# Altium schematic symbol library ald_mosfets.SchLib: 9 symbols
Pins are listed as number, name and electrical type; pins without a type are passive.

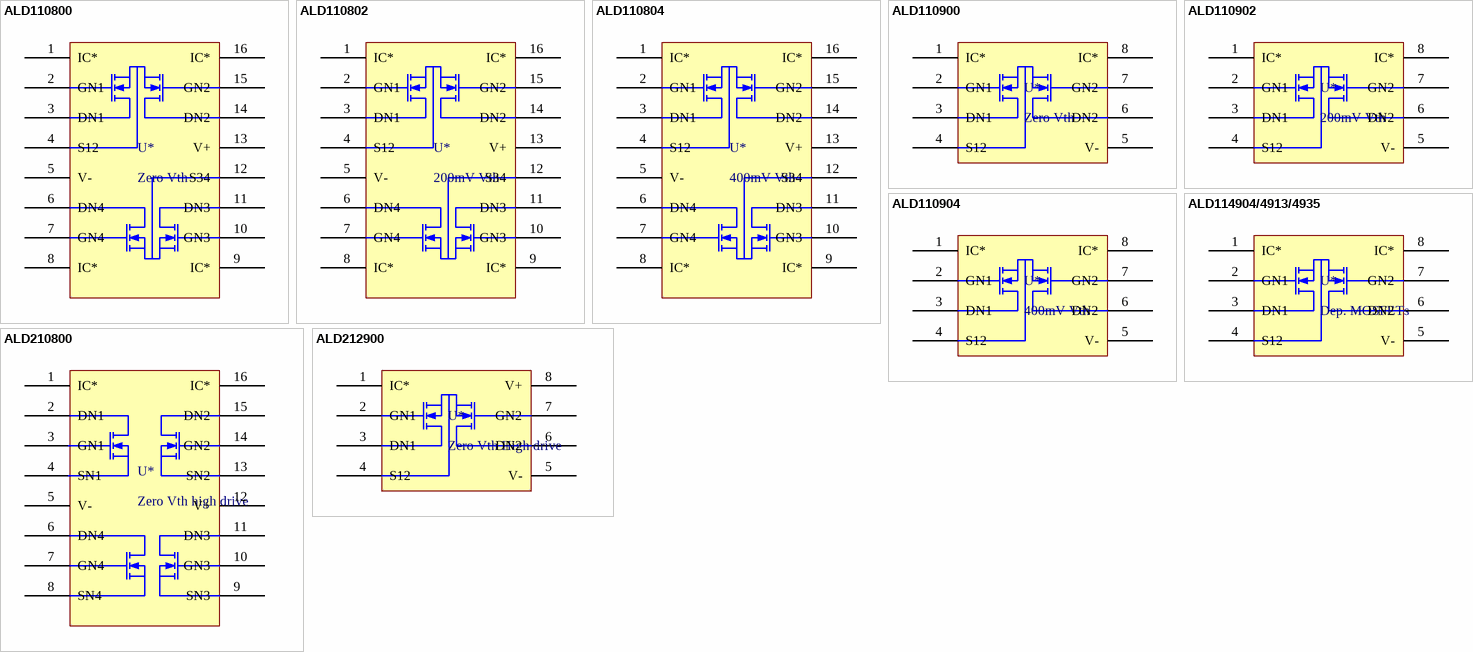
[diagram p0: symbols ALD110800 to ALD212900]

## ALD110800
designator U*, comment Zero Vth
Zero threshold Precision mosfets
footprint 16SOIC (ALD) (SOIC footprint for ALD MOSFETS)
pins: 1 IC*, 2 GN1, 3 DN1, 4 S12, 5 V-, 6 DN4, 7 GN4, 8 IC*, 9 IC*, 10 GN3, 11 DN3, 12 S34, 13 V+, 14 DN2, 15 GN2, 16 IC*

## ALD110802
designator U*, comment 200mV Vth
200mV Vth Precision matched mosfets
footprint 16SOIC (ALD) (SOIC footprint for ALD MOSFETS)
pins: 1 IC*, 2 GN1, 3 DN1, 4 S12, 5 V-, 6 DN4, 7 GN4, 8 IC*, 9 IC*, 10 GN3, 11 DN3, 12 S34, 13 V+, 14 DN2, 15 GN2, 16 IC*

## ALD110804
designator U*, comment 400mV Vth
400mV Precision matched mosfets
footprint 16SOIC (ALD) (SOIC footprint for ALD MOSFETS)
pins: 1 IC*, 2 GN1, 3 DN1, 4 S12, 5 V-, 6 DN4, 7 GN4, 8 IC*, 9 IC*, 10 GN3, 11 DN3, 12 S34, 13 V+, 14 DN2, 15 GN2, 16 IC*

## ALD110900
designator U*, comment Zero Vth
Zero threshold Precision mosfets
footprint 8SOIC (ALD) (SOIC footprint for ALD MOSFETS)
pins: 1 IC*, 2 GN1, 3 DN1, 4 S12, 5 V-, 6 DN2, 7 GN2, 8 IC*

## ALD110902
designator U*, comment 200mV Vth
200mV Vth Precision matched mosfets
footprint 8SOIC (ALD) (SOIC footprint for ALD MOSFETS)
pins: 1 IC*, 2 GN1, 3 DN1, 4 S12, 5 V-, 6 DN2, 7 GN2, 8 IC*

## ALD110904
designator U*, comment 400mV Vth
400mV  Precision matched mosfets
footprint 8SOIC (ALD) (SOIC footprint for ALD MOSFETS)
pins: 1 IC*, 2 GN1, 3 DN1, 4 S12, 5 V-, 6 DN2, 7 GN2, 8 IC*

## ALD114904/4913/4935
designator U*, comment Dep. MOSFETs
Depletion Precision mosfets
footprint 8SOIC (ALD) (SOIC footprint for ALD MOSFETS)
pins: 1 IC*, 2 GN1, 3 DN1, 4 S12, 5 V-, 6 DN2, 7 GN2, 8 IC*

## ALD210800
designator U*, comment Zero Vth high drive
High drive Zero threshold mosfet
footprint 16SOIC (ALD) (SOIC footprint for ALD MOSFETS)
pins: 1 IC*, 2 DN1, 3 GN1, 4 SN1, 5 V-, 6 DN4, 7 GN4, 8 SN4, 9 SN3, 10 GN3, 11 DN3, 12 V+, 13 SN2, 14 GN2, 15 DN2, 16 IC*

## ALD212900
designator U*, comment Zero Vth High drive
High drive  zero threshold mosfet
footprint 8SOIC (ALD) (SOIC footprint for ALD MOSFETS)
pins: 1 IC*, 2 GN1, 3 DN1, 4 S12, 5 V-, 6 DN2, 7 GN2, 8 V+